# Altium integrated library B340A-13-F.IntLib: 1 symbol
Pins are listed as number, name and electrical type; pins without a type are passive.

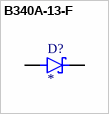
[diagram p0: symbol B340A-13-F]

## B340A-13-F
designator D?
Diode, Rectifier, 3a, 40v, Do-214ac, Full Reel; MP: B340A-13-F; Price: None; Value: *; Package: None; Availability: Unavailable
footprint DIOM5226X240N
pins: A, C